# EAGLE library part SIMLOCK492 (library amphenol-simlock)
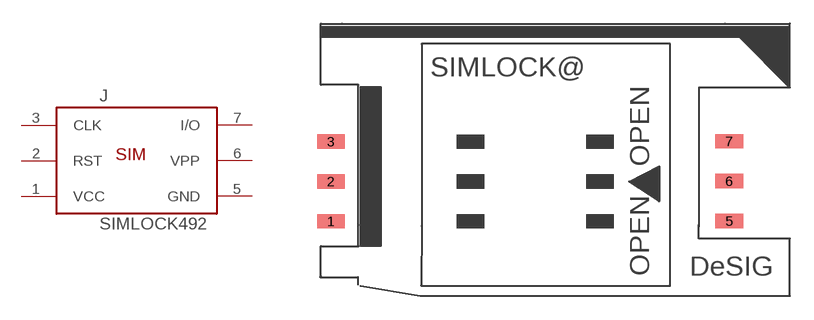
[diagram p0: symbol with the pads of 5002; footprint 5002]

Designator prefix J

## SIMLOCK492  [5002]
1  VCC
2  RST
3  CLK
5  GND
6  VPP
7  I/O

## Footprint 5002 (pad centres in mm)
6 Contacts (3+3), low profile drawn by DeSIG desig@radikaldesig.com
smd 1.778 x 0.914: 1 0.65,0.32; 2 0.65,2.86; 3 0.65,5.4; 5 26.045,0.34; 6 26.045,2.88; 7 26.045,5.42